# Altium integrated library Altium_WL-TMRW_rev22b.IntLib: 16 symbols
Pins are listed as number, name and electrical type; pins without a type are passive.

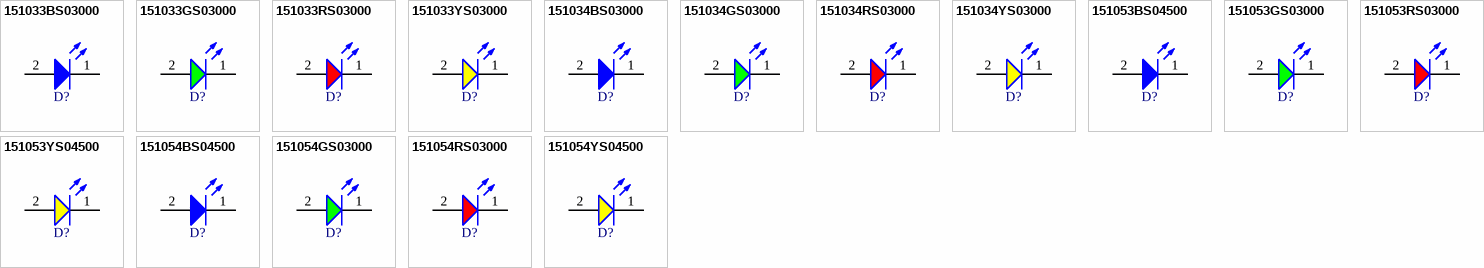
[diagram p0: symbols 151033BS03000 to 151054YS04500]

## 151033BS03000
designator D?, comment Blue, 2.8V, 30°  (value not drawn)
WL-TMRW Mono-color Round Waterclear, THT, D3.9 x H10.5mm, Blue, 2.8V, 30°; Manufacturer Part Number: 151033BS03000; Manufacturer: Wurth Elektronik; Chip Technology: InGaN; Dominant Wavelength: 470nm; Luminous Intensity: 3800mcd; Peak Wavelength: 465nm; Category: Signal LEDs; Match Code: WL-TMRW; ComponentLink1Description: Website Link; ComponentLink1URL: https://www.we-online.com/redexpert/article/151033BS03000?ad; ComponentLink2Description: Datasheet Link; ComponentLink2URL: https://www.we-online.com/redexpert/spec/151033BS03000?ad; Mount: Through Hole; Operating Temperature Max: 85°C; Operating Temperature Min: -40°C; Packaging: Bulk; Height: 10.5mm; Diameter: 3.9mm; Emitting Color: Blue; Forward Voltage: 2.8V; Viewing Angle: 30°
footprint WL-TMRW_D3.9H10.5
simulation model 3mm_151033BS03000
pins: 1 K, 2 A

## 151033GS03000
designator D?, comment Green, 3.2V, 30°  (value not drawn)
WL-TMRW Mono-color Round Waterclear, THT, D3.9 x H10.5mm, Green, 3.2V, 30°; Manufacturer Part Number: 151033GS03000; Manufacturer: Wurth Elektronik; Chip Technology: InGaN; Dominant Wavelength: 530nm; Luminous Intensity: 15000mcd; Peak Wavelength: 525nm; Category: Signal LEDs; Match Code: WL-TMRW; ComponentLink1Description: Website Link; ComponentLink1URL: https://www.we-online.com/redexpert/article/151033GS03000?ad; ComponentLink2Description: Datasheet Link; ComponentLink2URL: https://www.we-online.com/redexpert/spec/151033GS03000?ad; Mount: Through Hole; Operating Temperature Max: 85°C; Operating Temperature Min: -40°C; Packaging: Bulk; Height: 10.5mm; Diameter: 3.9mm; Emitting Color: Green; Forward Voltage: 3.2V; Viewing Angle: 30°
footprint WL-TMRW_D3.9H10.5
simulation model 3mm_151033GS03000
pins: 1 K, 2 A

## 151033RS03000
designator D?, comment Red, 2V, 30°  (value not drawn)
WL-TMRW Mono-color Round Waterclear, THT, D3.9 x H10.5mm, Red, 2V, 30°; Manufacturer Part Number: 151033RS03000; Manufacturer: Wurth Elektronik; Chip Technology: AlInGaP; Dominant Wavelength: 621nm; Luminous Intensity: 2600mcd; Peak Wavelength: 628nm; Category: Signal LEDs; Match Code: WL-TMRW; ComponentLink1Description: Website Link; ComponentLink1URL: https://www.we-online.com/redexpert/article/151033RS03000?ad; ComponentLink2Description: Datasheet Link; ComponentLink2URL: https://www.we-online.com/redexpert/spec/151033RS03000?ad; Mount: Through Hole; Operating Temperature Max: 85°C; Operating Temperature Min: -40°C; Packaging: Bulk; Height: 10.5mm; Diameter: 3.9mm; Emitting Color: Red; Forward Voltage: 2V; Viewing Angle: 30°
footprint WL-TMRW_D3.9H10.5
simulation model 3mm_151033RS03000
pins: 1 K, 2 A

## 151033YS03000
designator D?, comment Yellow, 2V, 30°  (value not drawn)
WL-TMRW Mono-color Round Waterclear, THT, D3.9 x H10.5mm, Yellow, 2V, 30°; Manufacturer Part Number: 151033YS03000; Manufacturer: Wurth Elektronik; Chip Technology: AlInGaP; Dominant Wavelength: 589nm; Luminous Intensity: 2100mcd; Peak Wavelength: 592nm; Category: Signal LEDs; Match Code: WL-TMRW; ComponentLink1Description: Website Link; ComponentLink1URL: https://www.we-online.com/redexpert/article/151033YS03000?ad; ComponentLink2Description: Datasheet Link; ComponentLink2URL: https://www.we-online.com/redexpert/spec/151033YS03000?ad; Mount: Through Hole; Operating Temperature Max: 85°C; Operating Temperature Min: -40°C; Packaging: Bulk; Height: 10.5mm; Diameter: 3.9mm; Emitting Color: Yellow; Forward Voltage: 2V; Viewing Angle: 30°
footprint WL-TMRW_D3.9H10.5
simulation model 3mm_151033YS03000
pins: 1 K, 2 A

## 151034BS03000
designator D?, comment Blue, 2.8V, 30°  (value not drawn)
WL-TMRW Mono-color Round Waterclear, THT, D3.9 x H5.3mm, Blue, 2.8V, 30°; Manufacturer Part Number: 151034BS03000; Manufacturer: Wurth Elektronik; Chip Technology: InGaN; Dominant Wavelength: 470nm; Luminous Intensity: 2400mcd; Peak Wavelength: 465nm; Category: Signal LEDs; Match Code: WL-TMRW; ComponentLink1Description: Website Link; ComponentLink1URL: https://www.we-online.com/redexpert/article/151034BS03000?ad; ComponentLink2Description: Datasheet Link; ComponentLink2URL: https://www.we-online.com/redexpert/spec/151034BS03000?ad; Mount: Through Hole; Operating Temperature Max: 85°C; Operating Temperature Min: -40°C; Packaging: Bulk; Height: 5.3mm; Diameter: 3.9mm; Emitting Color: Blue; Forward Voltage: 2.8V; Viewing Angle: 30°
footprint WL-TMRW_D3.9H5.3
simulation model 3mm_151034BS03000
pins: 1 K, 2 A

## 151034GS03000
designator D?, comment Green, 3.2V, 30°  (value not drawn)
WL-TMRW Mono-color Round Waterclear, THT, D3.9 x H5.3mm, Green, 3.2V, 30°; Manufacturer Part Number: 151034GS03000; Manufacturer: Wurth Elektronik; Chip Technology: InGaN; Dominant Wavelength: 530nm; Luminous Intensity: 10000mcd; Peak Wavelength: 525nm; Category: Signal LEDs; Match Code: WL-TMRW; ComponentLink1Description: Website Link; ComponentLink1URL: https://www.we-online.com/redexpert/article/151034GS03000?ad; ComponentLink2Description: Datasheet Link; ComponentLink2URL: https://www.we-online.com/redexpert/spec/151034GS03000?ad; Mount: Through Hole; Operating Temperature Max: 85°C; Operating Temperature Min: -40°C; Packaging: Bulk; Height: 5.3mm; Diameter: 3.9mm; Emitting Color: Green; Forward Voltage: 3.2V; Viewing Angle: 30°
footprint WL-TMRW_D3.9H5.3
simulation model 3mm_151034GS03000
pins: 1 K, 2 A

## 151034RS03000
designator D?, comment Red, 2V, 30°  (value not drawn)
WL-TMRW Mono-color Round Waterclear, THT, D3.9 x H5.3mm, Red, 2V, 30°; Manufacturer Part Number: 151034RS03000; Manufacturer: Wurth Elektronik; Chip Technology: AlInGaP; Dominant Wavelength: 621nm; Luminous Intensity: 2600mcd; Peak Wavelength: 628nm; Category: Signal LEDs; Match Code: WL-TMRW; ComponentLink1Description: Website Link; ComponentLink1URL: https://www.we-online.com/redexpert/article/151034RS03000?ad; ComponentLink2Description: Datasheet Link; ComponentLink2URL: https://www.we-online.com/redexpert/spec/151034RS03000?ad; Mount: Through Hole; Operating Temperature Max: 85°C; Operating Temperature Min: -40°C; Packaging: Bulk; Height: 5.3mm; Diameter: 3.9mm; Emitting Color: Red; Forward Voltage: 2V; Viewing Angle: 30°
footprint WL-TMRW_D3.9H5.3
simulation model 3mm_151034RS03000
pins: 1 K, 2 A

## 151034YS03000
designator D?, comment Yellow, 2V, 30°  (value not drawn)
WL-TMRW Mono-color Round Waterclear, THT, D3.9 x H5.3mm, Yellow, 2V, 30°; Manufacturer Part Number: 151034YS03000; Manufacturer: Wurth Elektronik; Chip Technology: AlInGaP; Dominant Wavelength: 589nm; Luminous Intensity: 2100mcd; Peak Wavelength: 592nm; Category: Signal LEDs; Match Code: WL-TMRW; ComponentLink1Description: Website Link; ComponentLink1URL: https://www.we-online.com/redexpert/article/151034YS03000?ad; ComponentLink2Description: Datasheet Link; ComponentLink2URL: https://www.we-online.com/redexpert/spec/151034YS03000?ad; Mount: Through Hole; Operating Temperature Max: 85°C; Operating Temperature Min: -40°C; Packaging: Bulk; Height: 5.3mm; Diameter: 3.9mm; Emitting Color: Yellow; Forward Voltage: 2V; Viewing Angle: 30°
footprint WL-TMRW_D3.9H5.3
simulation model 3mm_151034YS03000
pins: 1 K, 2 A

## 151053BS04500
designator D?, comment Blue, 2.7V, 45°  (value not drawn)
WL-TMRW Mono-color Round Waterclear, THT, D5.8 x H11.7mm, Blue, 2.7V, 45°; Manufacturer Part Number: 151053BS04500; Manufacturer: Wurth Elektronik; Chip Technology: InGaN; Dominant Wavelength: 465nm; Luminous Intensity: 2000mcd; Peak Wavelength: 461nm; Category: Signal LEDs; Match Code: WL-TMRW; ComponentLink1Description: Website Link; ComponentLink1URL: https://www.we-online.com/redexpert/article/151053BS04500?ad; ComponentLink2Description: Datasheet Link; ComponentLink2URL: https://www.we-online.com/redexpert/spec/151053BS04500?ad; Mount: Through Hole; Operating Temperature Max: 85°C; Operating Temperature Min: -40°C; Packaging: Bulk; Height: 11.7mm; Diameter: 5.8mm; Emitting Color: Blue; Forward Voltage: 2.7V; Viewing Angle: 45°
footprint WL-TMRW_D5.8H11.7
simulation model 5mm_151053BS04500
pins: 1 K, 2 A

## 151053GS03000
designator D?, comment Green, 3.4V, 30°  (value not drawn)
WL-TMRW Mono-color Round Waterclear, THT, D5.8 x H11.7mm, Green, 3.4V, 30°; Manufacturer Part Number: 151053GS03000; Manufacturer: Wurth Elektronik; Chip Technology: InGaN; Dominant Wavelength: 522nm; Luminous Intensity: 10000mcd; Peak Wavelength: 515nm; Category: Signal LEDs; Match Code: WL-TMRW; ComponentLink1Description: Website Link; ComponentLink1URL: https://www.we-online.com/redexpert/article/151053GS03000?ad; ComponentLink2Description: Datasheet Link; ComponentLink2URL: https://www.we-online.com/redexpert/spec/151053GS03000?ad; Mount: Through Hole; Operating Temperature Max: 85°C; Operating Temperature Min: -40°C; Packaging: Bulk; Height: 11.7mm; Diameter: 5.8mm; Emitting Color: Green; Forward Voltage: 3.4V; Viewing Angle: 30°
footprint WL-TMRW_D5.8H11.7
simulation model 5mm_151053GS03000
pins: 1 K, 2 A

## 151053RS03000
designator D?, comment Red, 1.9V, 30°  (value not drawn)
WL-TMRW Mono-color Round Waterclear, THT, D5.8 x H11.7mm, Red, 1.9V, 30°; Manufacturer Part Number: 151053RS03000; Manufacturer: Wurth Elektronik; Chip Technology: AlInGaP; Dominant Wavelength: 623nm; Luminous Intensity: 5000mcd; Peak Wavelength: 631nm; Category: Signal LEDs; Match Code: WL-TMRW; ComponentLink1Description: Website Link; ComponentLink1URL: https://www.we-online.com/redexpert/article/151053RS03000?ad; ComponentLink2Description: Datasheet Link; ComponentLink2URL: https://www.we-online.com/redexpert/spec/151053RS03000?ad; Mount: Through Hole; Operating Temperature Max: 85°C; Operating Temperature Min: -40°C; Packaging: Bulk; Height: 11.7mm; Diameter: 5.8mm; Emitting Color: Red; Forward Voltage: 1.9V; Viewing Angle: 30°
footprint WL-TMRW_D5.8H11.7
simulation model 5mm_151053RS03000
pins: 1 K, 2 A

## 151053YS04500
designator D?, comment Yellow, 2.1V, 45°  (value not drawn)
WL-TMRW Mono-color Round Waterclear, THT, D5.8 x H11.7mm, Yellow, 2.1V, 45°; Manufacturer Part Number: 151053YS04500; Manufacturer: Wurth Elektronik; Chip Technology: AlInGaP; Dominant Wavelength: 590nm; Luminous Intensity: 1500mcd; Peak Wavelength: 592nm; Category: Signal LEDs; Match Code: WL-TMRW; ComponentLink1Description: Website Link; ComponentLink1URL: https://www.we-online.com/redexpert/article/151053YS04500?ad; ComponentLink2Description: Datasheet Link; ComponentLink2URL: https://www.we-online.com/redexpert/spec/151053YS04500?ad; Mount: Through Hole; Operating Temperature Max: 85°C; Operating Temperature Min: -40°C; Packaging: Bulk; Height: 11.7mm; Diameter: 5.8mm; Emitting Color: Yellow; Forward Voltage: 2.1V; Viewing Angle: 45°
footprint WL-TMRW_D5.8H11.7
simulation model 5mm_151053YS04500
pins: 1 K, 2 A

## 151054BS04500
designator D?, comment Blue, 2.7V, 45°  (value not drawn)
WL-TMRW Mono-color Round Waterclear, THT, D5.8 x H8.6mm, Blue, 2.7V, 45°; Manufacturer Part Number: 151054BS04500; Manufacturer: Wurth Elektronik; Chip Technology: InGaN; Dominant Wavelength: 465nm; Luminous Intensity: 2000mcd; Peak Wavelength: 461nm; Category: Signal LEDs; Match Code: WL-TMRW; ComponentLink1Description: Website Link; ComponentLink1URL: https://www.we-online.com/redexpert/article/151054BS04500?ad; ComponentLink2Description: Datasheet Link; ComponentLink2URL: https://www.we-online.com/redexpert/spec/151054BS04500?ad; Mount: Through Hole; Operating Temperature Max: 85°C; Operating Temperature Min: -40°C; Packaging: Bulk; Height: 8.6mm; Diameter: 5.8mm; Emitting Color: Blue; Forward Voltage: 2.7V; Viewing Angle: 45°
footprint WL-TMRW_D5.8H8.6
simulation model 5mm_151054BS04500
pins: 1 K, 2 A

## 151054GS03000
designator D?, comment Green, 3.4V, 30°  (value not drawn)
WL-TMRW Mono-color Round Waterclear, THT, D5.8 x H8.6mm, Green, 3.4V, 30°; Manufacturer Part Number: 151054GS03000; Manufacturer: Wurth Elektronik; Chip Technology: InGaN; Dominant Wavelength: 522nm; Luminous Intensity: 10000mcd; Peak Wavelength: 515nm; Category: Signal LEDs; Match Code: WL-TMRW; ComponentLink1Description: Website Link; ComponentLink1URL: https://www.we-online.com/redexpert/article/151054GS03000?ad; ComponentLink2Description: Datasheet Link; ComponentLink2URL: https://www.we-online.com/redexpert/spec/151054GS03000?ad; Mount: Through Hole; Operating Temperature Max: 85°C; Operating Temperature Min: -40°C; Packaging: Bulk; Height: 8.6mm; Diameter: 5.8mm; Emitting Color: Green; Forward Voltage: 3.4V; Viewing Angle: 30°
footprint WL-TMRW_D5.8H8.6
simulation model 5mm_151054GS03000
pins: 1 K, 2 A

## 151054RS03000
designator D?, comment Red, 1.9V, 30°  (value not drawn)
WL-TMRW Mono-color Round Waterclear, THT, D5.8 x H8.6mm, Red, 1.9V, 30°; Manufacturer Part Number: 151054RS03000; Manufacturer: Wurth Elektronik; Chip Technology: AlInGaP; Dominant Wavelength: 623nm; Luminous Intensity: 5000mcd; Peak Wavelength: 631nm; Category: Signal LEDs; Match Code: WL-TMRW; ComponentLink1Description: Website Link; ComponentLink1URL: https://www.we-online.com/redexpert/article/151054RS03000?ad; ComponentLink2Description: Datasheet Link; ComponentLink2URL: https://www.we-online.com/redexpert/spec/151054RS03000?ad; Mount: Through Hole; Operating Temperature Max: 85°C; Operating Temperature Min: -40°C; Packaging: Bulk; Height: 8.6mm; Diameter: 5.8mm; Emitting Color: Red; Forward Voltage: 1.9V; Viewing Angle: 30°
footprint WL-TMRW_D5.8H8.6
simulation model 5mm_151054RS03000
pins: 1 K, 2 A

## 151054YS04500
designator D?, comment Yellow, 2.1V, 45°  (value not drawn)
WL-TMRW Mono-color Round Waterclear, THT, D5.8 x H8.6mm, Yellow, 2.1V, 45°; Manufacturer Part Number: 151054YS04500; Manufacturer: Wurth Elektronik; Chip Technology: AlInGaP; Dominant Wavelength: 590nm; Luminous Intensity: 1500mcd; Peak Wavelength: 592nm; Category: Signal LEDs; Match Code: WL-TMRW; ComponentLink1Description: Website Link; ComponentLink1URL: https://www.we-online.com/redexpert/article/151054YS04500?ad; ComponentLink2Description: Datasheet Link; ComponentLink2URL: https://www.we-online.com/redexpert/spec/151054YS04500?ad; Mount: Through Hole; Operating Temperature Max: 85°C; Operating Temperature Min: -40°C; Packaging: Bulk; Height: 8.6mm; Diameter: 5.8mm; Emitting Color: Yellow; Forward Voltage: 2.1V; Viewing Angle: 45°
footprint WL-TMRW_D5.8H8.6
simulation model 5mm_151054YS04500
pins: 1 K, 2 A